# Altium schematic symbol library SCH - DIODES - DIODE TVS.SCHLIB: 1 symbol
Pins are listed as number, name and electrical type; pins without a type are passive.

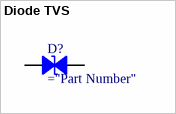
[diagram p0: symbol Diode TVS]

## Diode TVS
designator D?
Zener Diode
pins: 1, 2